# Altium schematic symbol library SCH - AMP - TI  TAS6424QDKQRQ1.Schlib: 1 symbol
Pins are listed as number, name and electrical type; pins without a type are passive.

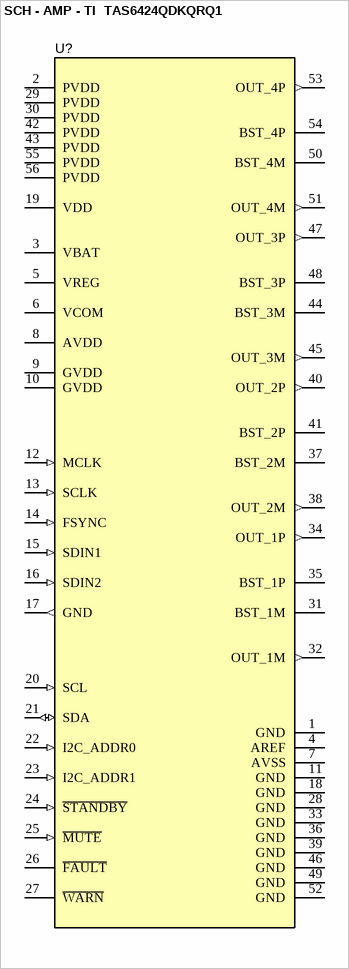
[diagram p0: symbol SCH - AMP - TI  TAS6424QDKQRQ1]

## SCH - AMP - TI  TAS6424QDKQRQ1
designator U?
footprint DKQ0056A
pins: 1 GND (power), 2 PVDD (power), 3 VBAT (power), 4 AREF (power), 5 VREG (power), 6 VCOM (power), 7 AVSS (power), 8 AVDD (power), 9 GVDD (power), 10 GVDD (power), 11 GND (power), 12 MCLK (in), 13 SCLK (in), 14 FSYNC (in), 15 SDIN1 (in), 16 SDIN2 (in), 17 GND (out), 18 GND (power), 19 VDD (power), 20 SCL (in), 21 SDA (io), 22 I2C_ADDR0 (in), 23 I2C_ADDR1 (in), 24 ~{STANDBY} (in), 25 ~{MUTE} (in), 26 ~{FAULT} (oc), 27 ~{WARN} (oc), 28 GND (power), 29 PVDD (power), 30 PVDD (power), 31 BST_1M (power), 32 OUT_1M (out), 33 GND (power), 34 OUT_1P (out), 35 BST_1P (power), 36 GND (power), 37 BST_2M (power), 38 OUT_2M (out), 39 GND (power), 40 OUT_2P (out), 41 BST_2P (power), 42 PVDD (power), 43 PVDD (power), 44 BST_3M (power), 45 OUT_3M (out), 46 GND (power), 47 OUT_3P (out), 48 BST_3P (power), 49 GND (power), 50 BST_4M (power), 51 OUT_4M (out), 52 GND (power), 53 OUT_4P (out), 54 BST_4P (power), 55 PVDD (power), 56 PVDD (power)